# Altium integrated library EducationalBoardV2F103RBT6.IntLib: 27 symbols
Pins are listed as number, name and electrical type; pins without a type are passive.

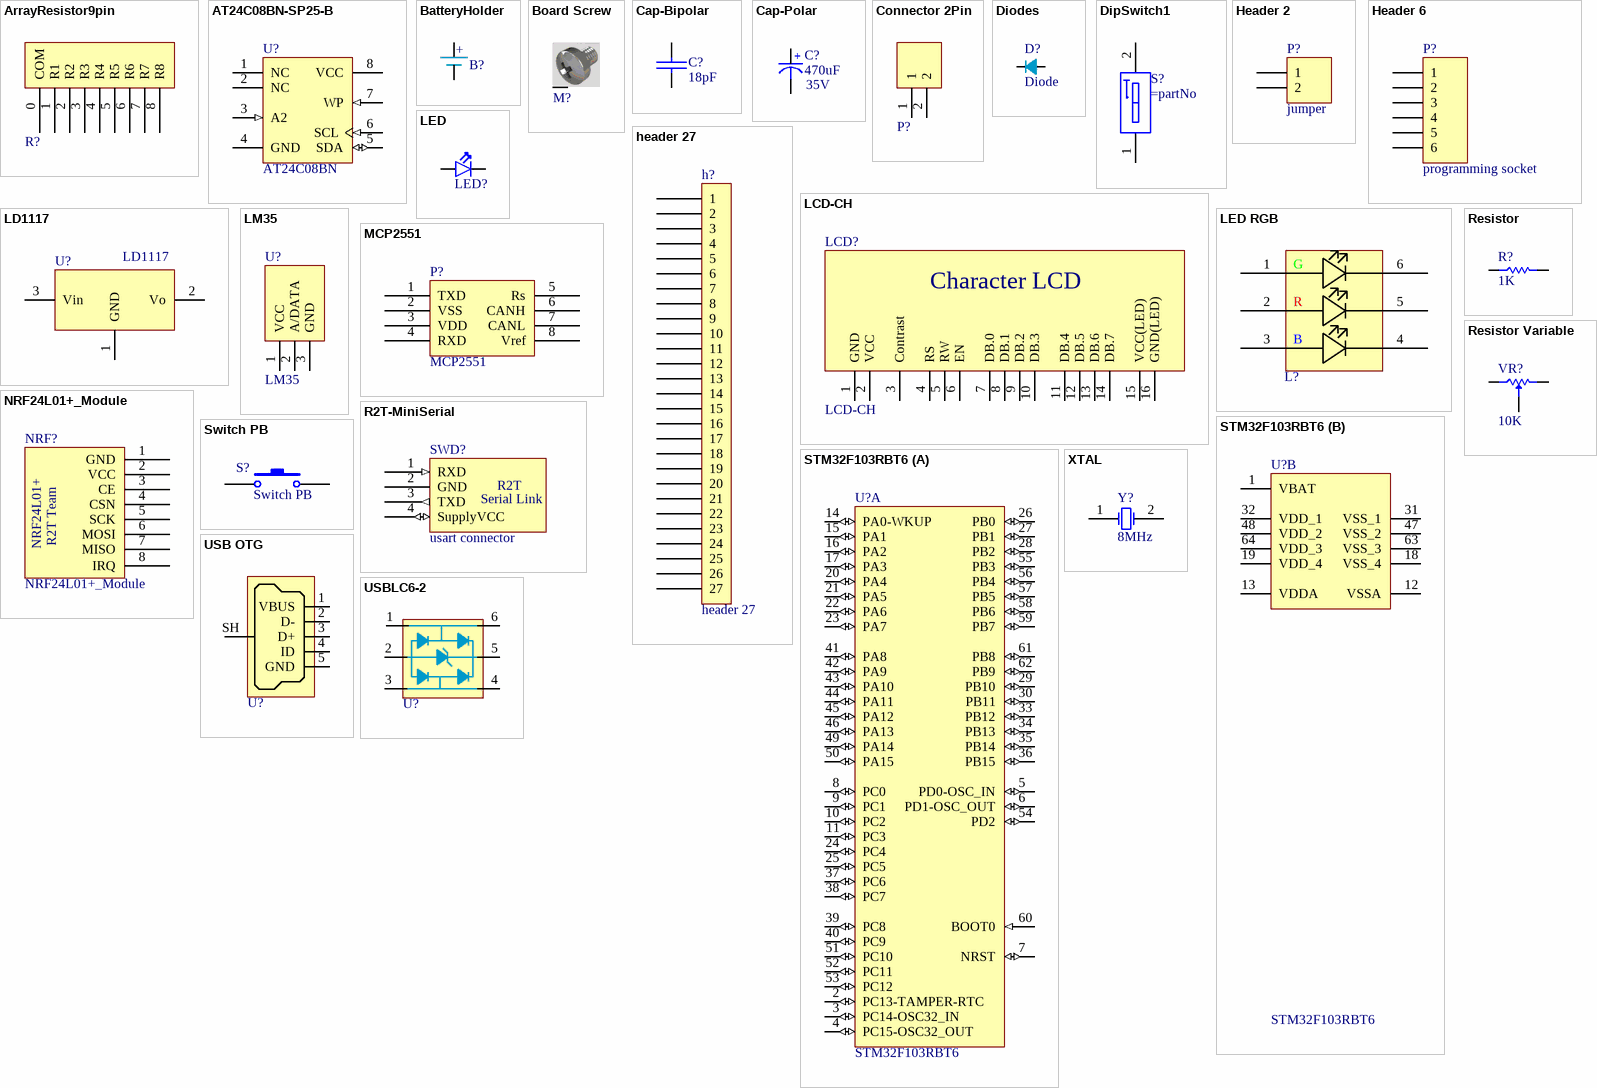
[diagram p0: symbols ArrayResistor9pin to XTAL]

## ArrayResistor9pin
designator R?  (value not drawn)
footprint ArrayRes9
pins: 0 COM, 1 R1, 2 R2, 3 R3, 4 R4, 5 R5, 6 R6, 7 R7, 8 R8

## AT24C08BN-SP25-B
designator U?, comment AT24C08BN
Serial EEPROM; DatasheetVersion: 8517C,  Jan-2009; PackageVersion: revC, Mar-2005; PackageReference: 8S1; PackageDescription: 8-Lead (0.150" Wide Body), Plastic Gull Wing Small Outline (JEDEC SOIC); Code_JEDEC: MS-012-AA; Code_IPC: SOIC127P600-8; ComponentLink1Description: Manufacturer URL; ComponentLink1URL: http://www.atmel.com/; ComponentLink2Description: Datasheet; ComponentLink2URL: http://www.atmel.com/dyn/resources/prod_documents/doc8517.pdf
footprint 8S1_N (SOIC, 8-Leads, Body 4.9x3.9mm, Pitch 1.27mm, IPC Medium Density)
footprint 8S1_L (SOIC, 8-Leads, Body 4.9x3.9mm, Pitch 1.27mm, IPC High Density)
footprint 8S1_M (SOIC, 8-Leads, Body 4.9x3.9mm, Pitch 1.27mm, IPC Low Density)
pins: 1 NC, 2 NC, 3 A2 (in), 4 GND (power), 5 SDA (io), 6 SCL (in), 7 WP (in), 8 VCC (power)

## BatteryHolder
designator B?  (value not drawn)
footprint Battery Holder 2032
footprint Battery Holder CR1220-SMD
pins: 1, 2
text: +

## Board Screw
designator M?, comment Screw  (value not drawn)
Board Screw With Spacer
footprint Board Screw
footprint Board Screw_No Silk
pins: S

## Cap-Bipolar
designator C?, comment 18pF
Bipolar Capacitor; Voltage: 100V; Designer: Saeid Jorablo; Organazation: ControTec; Adding Date: 1387/12/20; Value: 18pF
footprint Cap 1uF-400v-Right
footprint Cap 1uF-400V-Stand
footprint Cap 10nF
footprint Cap - 100nF
footprint Cap - 100nF - 2
footprint Cap_680nF
footprint CAP 1206 (3216X15L) (Chip Capacitor, 2-Leads, Body 3.2x1.6mm, IPC High Density)
footprint CAPP 1206 (3216X18L) Size A (Chip Capacitor, 2-Leads, Body 3.2x1.6mm, IPC High Density, chip Tantalum)
footprint Cap - 10nF - 630V
footprint Cap - 100nF - 400V
footprint Cap - 220n - 400V - Poly
footprint Cap - 330nF - 400V
footprint SMD_CAP_0603
footprint SMD_CAP_0805
footprint SMD_CAP_1206
pins: 1 +, 2 -

## Cap-Polar
designator C?, comment Voltage: 35V  (hidden comment: 470uF)
Polar Capacitor; Designer: Saeid Jorablo; Organazation: ControTec; Adding Date: 1387/12/20; Value: 470uF
footprint cap 00
footprint cap 01
footprint cap 02
footprint cap 03
footprint cap 04
footprint CAP 05
footprint CAPP 1206 (3216X18L) Size A (Chip Capacitor, 2-Leads, Body 3.2x1.6mm, IPC High Density, chip Tantalum)
pins: 1 +, 2 -

## Connector 2Pin
designator P?, comment can Connector  (value not drawn)
Designer:: Hamed Jafarzadeh - www.R2T.ir
footprint Polarized Header 2
footprint Terminal Block 2pin
footprint Phoenix 2pin ST (-)
footprint PH Connector 2Pin
footprint KF350-2p (-)
pins: 1, 2

## Diodes
designator D?  Description:: Diode  (hidden comment: Diodes)
Designer :: Hamed Jafarzadeh
footprint DO-214AC ( SMD Diode )
footprint SMB-CASE 403-A03 (Molded Diode,MURS120T)
footprint DO-201 (1n5822 Through Hole)
footprint DO-201 Vertical (1n5822 Through Hole)
pins: 0, 1

## DipSwitch1
designator S?
WS-DITV 2.54 mm compact THT with flat actuator; Manufacturer: Wurth Elektronik; Part No.: 418117170901; ComponentLink1 Description: Manufacturer; ComponentLink2 Description: Datasheet; Pole: 01; Created Date: Dec.2015; ComponentLink1URL: http://www.we-online.com; ComponentLink2URL: http://katalog.we-online.de/em/datasheet/4181171709xx.pdf; Created by: Baojun Chen
footprint 418117170901 (01p, 2.54mm Pitch, Horizontal, Box Type, THT, flat Actuator, red, without Tape, Tube)
pins: 1, 2

## Header 2
designator P?, comment jumper
Header, 2-Pin; LatestRevisionDate: 17-Jul-2002; LatestRevisionNote: Re-released for DXP Platform.; Publisher: Altium Limited
footprint HDR1X2 (Connector; Header; 2 Position)
signal-integrity model Connector
pins: 1, 2

## Header 6
designator P?, comment programming socket
Header, 6-Pin; LatestRevisionDate: 17-Jul-2002; LatestRevisionNote: Re-released for DXP Platform.; Publisher: Altium Limited
footprint HDR1X6 (Connector; Header; 6 Position)
signal-integrity model Connector
pins: 1, 2, 3, 4, 5, 6

## header 27
designator h?
footprint PCBComponent_1
pins: 1, 2, 3, 4, 5, 6, 7, 8, 9, 10, 11, 12, 13, 14, 15, 16, 17, 18, 19, 20, 21, 22, 23, 24, 25, 26, 27

## LCD-CH
designator LCD?
footprint LCD2-16
footprint LCD4*20
pins: 1 GND, 2 VCC, 3 Contrast, 4 RS, 5 RW, 6 EN, 7 DB.0, 8 DB.1, 9 DB.2, 10 DB.3, 11 DB.4, 12 DB.5, 13 DB.6, 14 DB.7, 15 VCC(LED), 16 GND(LED)
text: Character LCD

## LD1117
designator U?
footprint TO-252-reg (D-PAK/TO-252-AA; 3 Leads (1 Cropped); Body 10.3 (inc. leads) x 6.7 mm (LxW max))
pins: 1 GND, 2 Vo, 3 Vin

## LED
designator LED?  (value not drawn)
LED Red; Designer :: Razi Research Team Of Mashhad - Hamed Jafarzadeh
footprint LED0603
footprint LED0805
footprint LED1206
pins: 1 A, 2 K

## LED RGB
designator L?  (value not drawn)
LED 5050 RGB
footprint LED_5050 (LED RGB)
pins: 1 G (hiz), 2 R (hiz), 3 B (hiz), 4 (hiz), 5 (hiz), 6 (hiz)

## LM35
designator U?
footprint LM35
pins: 1 VCC, 2 A/DATA, 3 GND

## MCP2551
designator P?
CAN TRANSCEIVERS
footprint MCP2551
pins: 1 TXD, 2 VSS, 3 VDD, 4 RXD, 5 Rs, 6 CANH, 7 CANL, 8 Vref

## NRF24L01+_Module
designator NRF?
Designer:: HamedJafarzadeh
footprint NRF24L01+_Module
footprint NRF24L01+_Module-LNA+PA
footprint NRF24L01P_SMD
pins: 1 GND, 2 VCC, 3 CE, 4 CSN, 5 SCK, 6 MOSI, 7 MISO, 8 IRQ
text: NRF24L01+; R2T Team

## R2T-MiniSerial
designator SWD?, comment usart connector
footprint SerialWireMini
pins: 1 RXD (in), 2 GND, 3 TXD (out), 4 SupplyVCC (io)
text: R2T; Serial Link

## Resistor
designator R?, comment 1K
Resistor; Tolerance: 5%; Power: 1/8 W; Value: 1K
simulation model Model Name (Model Description)
footprint Res-(1/8)
footprint Res-(1/4)
footprint Res-(1/2)
footprint Res-(1/1)
footprint Res-(2/1)
footprint RES 0201 (0603X03L) (Chip Resistor, 2-Leads, Body 0.6x0.3mm, IPC High Density (0.05 W))
footprint RES 0402 (1005X04L) (Chip Resistor, 2-Leads, Body 1.0x0.5mm, IPC High Density _ (0.031/0.063 W))
footprint RES 0603 (1608X06L) (Chip Resistor, 2-Leads, Body 1.6x0.8mm, IPC High Density _ (0.063W))
footprint RES 0805 (2012X06L) (Chip Resistor, 2-Leads, Body 2.0x1.3mm, IPC High Density _ (0.100 W))
footprint RES 1206 (3216X08L) (Chip Resistor, 2-Leads, Body 3.2x1.6mm, IPC High Density _ (0.125 W))
footprint RES 1210 (3226X07L) (Chip Resistor, 2-Leads, Body 3.2x2.6mm, IPC High Density _ (0.250 W))
footprint RES 1217 (3042X09L) (Chip Resistor, 2-Leads, Body 3.0x4.2mm, IPC High Density _ (0.250 W))
footprint RES 2010 (5026X08L) (Chip Resistor, 2-Leads, Body 5.0x2.6mm, IPC High Density _ (0.250 W))
footprint RES 2020 (5151X09L) (Chip Resistor, 2-Leads, Body 5.1x5.1mm, IPC High Density _ (0.5 W))
footprint RES 2045 (50115X09L) (Chip Resistor, 2-Leads, Body 5.0x11.5mm, IPC High Density _ (1.0 W))
footprint RES 2512 (6331X07L) (Chip Resistor, 2-Leads, Body 6.3x3.1mm, IPC High Density _ (0.500 W))
footprint Res-(1/4)-Stand
footprint Res-(5/1)-Stand
footprint SMD_RES_0603 (Chip Resistor, 2-Leads, Body 1.6x0.8mm, IPC High Density _ (0.063W))
footprint SMD_RES_0805 (Chip Resistor, 2-Leads, Body 2.0x1.3mm, IPC High Density _ (0.100 W))
footprint SMD_RES_1206 (Chip Resistor, 2-Leads, Body 3.2x1.6mm, IPC High Density _ (0.125 W))
pins: 1, 2

## Resistor Variable
designator VR?, comment 10K
Variable Resistor; Designer: Saeid Jorablo; Company: ControTec; Adding Date: 137/12/22; Value: 10K
footprint Pot 00
footprint Multi Turn 02
pins: 1 CCW, 2 CW, 3 Setpoint

## STM32F103RBT6
designator U?
ARM Cortex-M3 32-bit MCU; A/D Converter: 2x12-bit (16 Channel); FLASH Size (Prog) (kB): 128; I/Os (High Current): 51; Internal RAM Size (kB): 20; Operating Frequency(F) (Processor speed) (MHz): 72; Packing: Tray; Supply Voltage(Vcc) min (V): 2; DatasheetVersion: Rev. 16; PackageVersion: Rev. 4, 06/2013; PackageReference: LQFP64; PackageDescription: 64-Pin Low Profile Quad Flat Package, 10 x 10 mm Body, 0.5 mm Pitch; Supplier 1: Digi-Key; Supplier Part Number 1: 497-6066-ND; Supplier 2: Farnell; Supplier Part Number 2: 1447640; Supplier 3: Newark; Supplier Part Number 3: 59M2183; Supplier 4: Newark; Supplier Part Number 4: 57P1224; Supplier 5: Mouser; Supplier Part Number 5: 511-STM32F103RBT6; Core: ARM Cortex-M3; Mounting Technology: Surface Mount; PartNumber: STM32F103RBT6; ComponentLink1Description: Manufacturer URL; ComponentLink1URL: http://www.st.com/web/en/home.html; ComponentLink2Description: Datasheet; ComponentLink2URL: http://www.st.com/st-web-ui/static/active/en/resource/technical/document/datasheet/CD00161566.pdf; ComponentLink3Description: Package Specification; ComponentLink3URL: http://www.st.com/st-web-ui/static/active/en/resource/technical/document/datasheet/DM00037051.pdf
footprint STM-LQFP64_N (Thin QFP, 64-Leads, Body 10x10mm, Pitch 0.5mm, IPC Medium Density)
footprint STM-LQFP64_L (Thin QFP, 64-Leads, Body 10x10mm, Pitch 0.5mm, IPC High Density)
footprint STM-LQFP64_M (Thin QFP, 64-Leads, Body 10x10mm, Pitch 0.5mm, IPC Low Density)
footprint STM-LQFP64_V (Thin QFP, 64-Leads, Body 10x10mm, Pitch 0.5mm, ST Recommended)
part A pins: 2 PC13-TAMPER-RTC (io) "PC13-TAMPER-RTC/PC13/TAMPER-RTC", 3 PC14-OSC32_IN (io) "PC14-OSC32_IN/PC14/OSC32_IN", 4 PC15-OSC32_OUT (io) "PC15-OSC32_OUT/PC15/OSC32_OUT", 5 PD0-OSC_IN (io) "PD0/OSC_IN", 6 PD1-OSC_OUT (io) "PD1/OSC_OUT", 7 NRST (io), 8 PC0 (io) "PC0/ADC12_IN10", 9 PC1 (io) "PC1/ADC12_IN11", 10 PC2 (io) "PC2/ADC12_IN12", 11 PC3 (io) "PC3/ADC12_IN13", 14 PA0-WKUP (io) "PA0-WKUP/PA0/WKUP/USART2_CTS/ADC12_IN0/TIM2_CH1_ETR", 15 PA1 (io) "PA1/USART2_RTS/ADC12_IN1/TIM2_CH2", 16 PA2 (io) "PA2/USART2_TX/ADC12_IN2/TIM2_CH3", 17 PA3 (io) "PA3/USART2_RX/ADC12_IN3/TIM2_CH4", 20 PA4 (io) "PA4/SPI1_NSS/USART2_CK/ADC12_IN4", 21 PA5 (io) "PA5/SPI1_SCK/ADC12_IN5", 22 PA6 (io) "PA6/SPI1_MISO/ADC12_IN6/TIM3_CH1/TIM1_BKIN", 23 PA7 (io) "PA7/SPI1_MOSI/ADC12_IN7/TIM3_CH2/TIM1_CH1N", 24 PC4 (io) "PC4/ADC12_IN14", 25 PC5 (io) "PC5/ADC12_IN15", 26 PB0 (io) "PB0/ADC12_IN8/TIM3_CH3/TIM1_CH2N", 27 PB1 (io) "PB1/ADC12_IN9/TIM3_CH4/TIM1_CH3N", 28 PB2 (io) "PB2/BOOT1", 29 PB10 (io) "PB10/I2C2_SCL/USART3_TX/TIM2_CH3", 30 PB11 (io) "PB11/I2C2_SDA/USART3_RX/TIM2_CH4", 33 PB12 (io) "PB12/SPI2_NSS/I2C2_SMBAl/USART3_CK/TIM1_BKIN", 34 PB13 (io) "PB13/SPI2_SCK/USART3_CTS/TIM1_CH1N", 35 PB14 (io) "PB14/SPI2_MISO/USART3_RTS/TIM1_CH2N", 36 PB15 (io) "PB15/SPI2_MOSI/TIM1_CH3N", 37 PC6 (io) "PC6/TIM3_CH1", 38 PC7 (io) "PC7/TIM3_CH2", 39 PC8 (io) "PC8/TIM3_CH3", 40 PC9 (io) "PC9/TIM3_CH4", 41 PA8 (io) "PA8/USART1_CK/TIM1_CH1/MCO", 42 PA9 (io) "PA9/USART1_TX/TIM1_CH2", 43 PA10 (io) "PA10/USART1_RX/TIM1_CH3", 44 PA11 (io) "PA11/USART1_CTS/CANRX/USBDM/TIM1_CH4", 45 PA12 (io) "PA12/USART1_RTS/CANTX/USBDP/TIM1_ETR", 46 PA13 (io) "PA13/JTMS/SWDIO", 49 PA14 (io) "PA14/JTCK/SWCLK", 50 PA15 (io) "PA15/JTDI/TIM2_CH1_ETR/SPI1_NSS", 51 PC10 (io) "PC10/USART3_TX", 52 PC11 (io) "PC11/USART3_RX", 53 PC12 (io) "PC12/USART3_CK", 54 PD2 (io) "PD2/TIM3_ETR", 55 PB3 (io) "PB3/JTDO/TIM2_CH2/TRACESWO/SPI1_SCK", 56 PB4 (io) "PB4/NJTRST/TIM3_CH1/SPI1_MISO", 57 PB5 (io) "PB5/I2C1_SMBAI/TIM3_CH2/SPI1_MOSI", 58 PB6 (io) "PB6/I2C1_SCL/TIM4_CH1/USART1_TX", 59 PB7 (io) "PB7/I2C1_SDA/TIM4_CH2/USART1_RX", 60 BOOT0 (in), 61 PB8 (io) "PB8/TIM4_CH3/I2C1_SCL/CANRX", 62 PB9 (io) "PB9/TIM4_CH4/I2C1_SDA/CANTX"
part B pins: 1 VBAT (power), 12 VSSA (power), 13 VDDA (power), 18 VSS_4 (power), 19 VDD_4 (power), 31 VSS_1 (power), 32 VDD_1 (power), 47 VSS_2 (power), 48 VDD_2 (power), 63 VSS_3 (power), 64 VDD_3 (power)

## Switch PB
designator S?
Push Button Switch
footprint Switch - Push to On
footprint SW-PB
pins: 1, 2

## USB OTG
designator U?  (value not drawn)
Designer:: Hamed Jafarzadeh
footprint USB_Micro-B_FCI_SMD
footprint USB_Micro-B_Molex_SMD
footprint USB_Micro
pins: 1 VBUS, 2 D-, 3 D+, 4 ID, 5 GND, SH Shell

## USBLC6-2
designator U?  (value not drawn)
Very low capacitance ESD protection;; Designer: Hamed Jafarzadeh
footprint USBLC6-2 (USB ESD Protectection)
pins: 1 0, 2 0, 3 0, 4 0, 5 0, 6 IO

## XTAL
designator Y?, comment 8MHz
XTAL Crystal; Company: E.P.I.L; Design Date: 11/04/2011; Value: 8MHz
footprint Crystal SMD
footprint XTAL
footprint XTAL Small
footprint XTAL RTC
pins: 1 OSC1, 2 OSC2